# Altium schematic symbol library RES_GENERIC.SchLib: 1 symbol
Pins are listed as number, name and electrical type; pins without a type are passive.

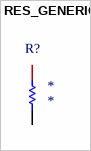
[diagram p0: symbol RES_GENERIC]

## RES_GENERIC
designator R?
Generic Resistor; Tolerance: *; Resistance: *; Package (Imperial): *
pins: 1, 2